# EAGLE library part CPU8051 (library atmel_tiny24-44-84tiny48-88mega48-88-168-328)
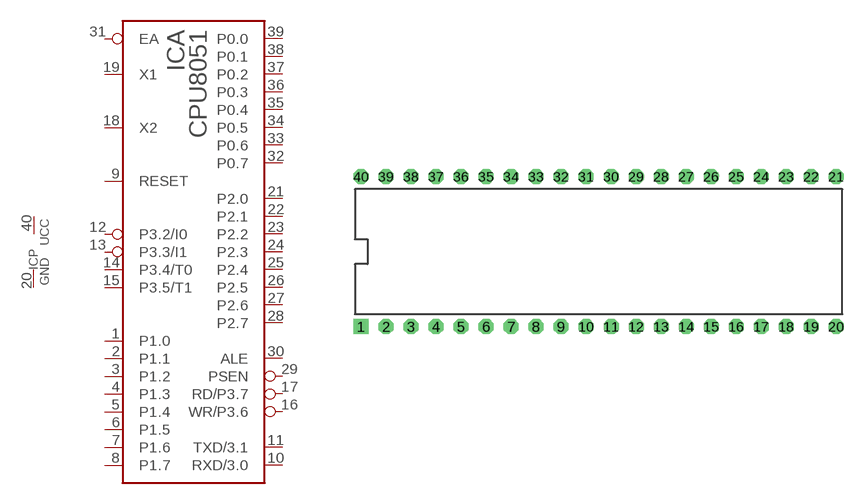
[diagram p1: symbol with the pads of DIL40; footprint DIL40]

Designator prefix IC; gates A=CPU8051 P=!UCC+GND

## CPU8051  [DIL40]
1  A:P1.0
2  A:P1.1
3  A:P1.2
4  A:P1.3
5  A:P1.4
6  A:P1.5
7  A:P1.6
8  A:P1.7
9  A:RESET  in
10  A:RXD/3.0
11  A:TXD/3.1
12  A:P3.2/I0
13  A:P3.3/I1
14  A:P3.4/T0
15  A:P3.5/T1
16  A:WR/P3.6
17  A:RD/P3.7
18  A:X2  out
19  A:X1  in
20  P:GND  pwr
21  A:P2.0
22  A:P2.1
23  A:P2.2
24  A:P2.3
25  A:P2.4
26  A:P2.5
27  A:P2.6
28  A:P2.7
29  A:PSEN  out
30  A:ALE  out
31  A:EA  in
32  A:P0.7
33  A:P0.6
34  A:P0.5
35  A:P0.4
36  A:P0.3
37  A:P0.2
38  A:P0.1
39  A:P0.0
40  P:UCC  pwr

## Footprint DIL40 (pad centres in mm)
drill 0.889 pad 1.524 square: 1 -24.13,-7.62
drill 0.889 pad 1.524 octagon: 2 -21.59,-7.62; 3 -19.05,-7.62; 4 -16.51,-7.62; 5 -13.97,-7.62; 6 -11.43,-7.62; 7 -8.89,-7.62; 8 -6.35,-7.62; 9 -3.81,-7.62; 10 -1.27,-7.62; 11 1.27,-7.62; 12 3.81,-7.62; 13 6.35,-7.62; 14 8.89,-7.62; 15 11.43,-7.62; 16 13.97,-7.62; 17 16.51,-7.62; 18 19.05,-7.62; 19 21.59,-7.62; 20 24.13,-7.62; 21 24.13,7.62; 22 21.59,7.62; 23 19.05,7.62; 24 16.51,7.62; 25 13.97,7.62; 26 11.43,7.62; 27 8.89,7.62; 28 6.35,7.62; 29 3.81,7.62; 30 1.27,7.62; 31 -1.27,7.62; 32 -3.81,7.62; 33 -6.35,7.62; 34 -8.89,7.62; 35 -11.43,7.62; 36 -13.97,7.62; 37 -16.51,7.62; 38 -19.05,7.62; 39 -21.59,7.62; 40 -24.13,7.62